# EAGLE library part VS1053B (library vlsi-solution)
CODEC Ogg Vorbis/MP3/AAC/WMA/FLAC/MIDI AUDIO CODEC
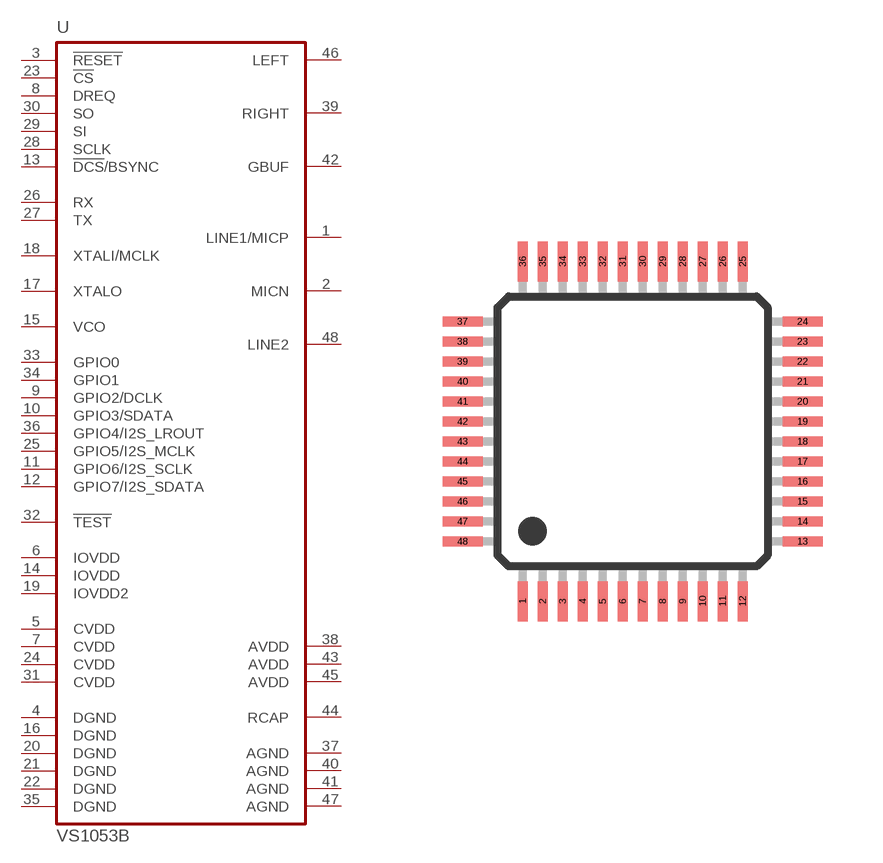
[diagram p0: symbol with the pads of LQFP48; footprint LQFP48]

Designator prefix U

## VS1053B  [LQFP48]
1  LINE1/MICP  in
2  MICN  in
3  !RESET!  in
4  DGND  pwr
5  CVDD  pwr
6  IOVDD  pwr
7  CVDD  pwr
8  DREQ
9  GPIO2/DCLK
10  GPIO3/SDATA
11  GPIO6/I2S_SCLK
12  GPIO7/I2S_SDATA
13  !DCS!/BSYNC  in
14  IOVDD  pwr
15  VCO  out
16  DGND  pwr
17  XTALO  out
18  XTALI/MCLK  in
19  IOVDD2  pwr
20  DGND  pwr
21  DGND  pwr
22  DGND  pwr
23  !CS!  in
24  CVDD  pwr
25  GPIO5/I2S_MCLK
26  RX  in
27  TX  out
28  SCLK  in
29  SI  in
30  SO
31  CVDD  pwr
32  !TEST!  in
33  GPIO0
34  GPIO1
35  DGND  pwr
36  GPIO4/I2S_LROUT
37  AGND  pwr
38  AVDD  pwr
39  RIGHT  out
40  AGND  pwr
41  AGND  pwr
42  GBUF  out
43  AVDD  pwr
44  RCAP  in
45  AVDD  pwr
46  LEFT  out
47  AGND  pwr
48  LINE2  in

## Footprint LQFP48 (pad centres in mm)
LQFP48
smd 0.25 x 1: 1 -2.75,-4.25; 2 -2.25,-4.25; 3 -1.75,-4.25; 4 -1.25,-4.25; 5 -0.75,-4.25; 6 -0.25,-4.25; 7 0.25,-4.25; 8 0.75,-4.25; 9 1.25,-4.25; 10 1.75,-4.25; 11 2.25,-4.25; 12 2.75,-4.25; 25 2.75,4.25; 26 2.25,4.25; 27 1.75,4.25; 28 1.25,4.25; 29 0.75,4.25; 30 0.25,4.25; 31 -0.25,4.25; 32 -0.75,4.25; 33 -1.25,4.25; 34 -1.75,4.25; 35 -2.25,4.25; 36 -2.75,4.25
smd 1 x 0.25: 13 4.25,-2.75; 14 4.25,-2.25; 15 4.25,-1.75; 16 4.25,-1.25; 17 4.25,-0.75; 18 4.25,-0.25; 19 4.25,0.25; 20 4.25,0.75; 21 4.25,1.25; 22 4.25,1.75; 23 4.25,2.25; 24 4.25,2.75; 37 -4.25,2.75; 38 -4.25,2.25; 39 -4.25,1.75; 40 -4.25,1.25; 41 -4.25,0.75; 42 -4.25,0.25; 43 -4.25,-0.25; 44 -4.25,-0.75; 45 -4.25,-1.25; 46 -4.25,-1.75; 47 -4.25,-2.25; 48 -4.25,-2.75